# Altium footprint library crystals.PcbLib: 1 footprints
Each footprint in its own frame and in the unit in brackets; x right, y up, seen from the top. Pads: shape width x height; smd on the part's side, far side on the other; paste and mask are expansions set on the pad; w line width, h text height; cw(c..) or ccw(c..) is an arc to the next point about the centre after c.
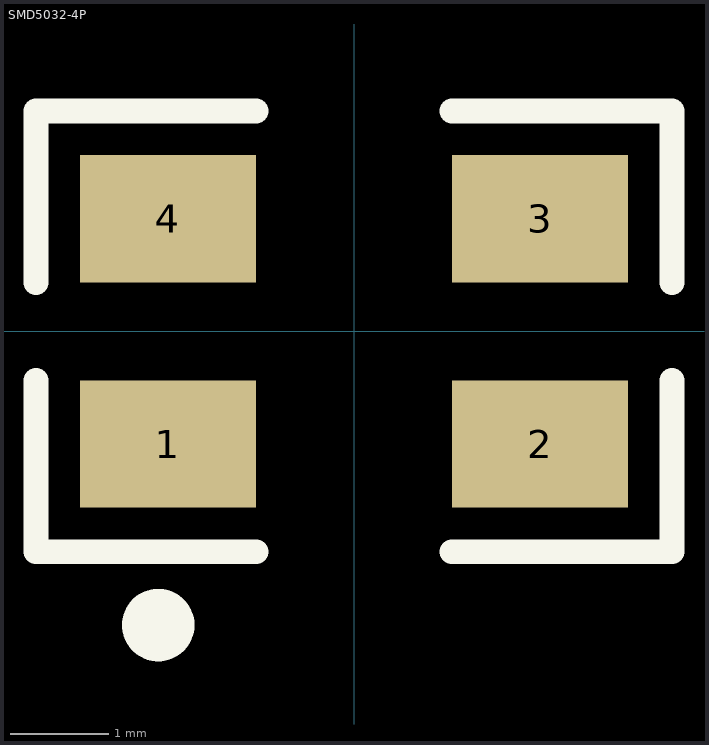
[diagram p0: the footprint, top view; thin cyan lines are the x and y axes]

## SMD5032-4P [mm] "5.0 x 3.2mm SMD"
pads (4):
  rect 1.8x1.3 smd: 1(-1.9,-1.15) 2(1.9,-1.15) 3(1.9,1.15) 4(-1.9,1.15)
Top Overlay:
  circle w0.5: c-2,-3 r0.12
  lines w0.254: -3.25,-0.5 -3.25,-2.25 -1,-2.25 ; -3.25,0.5 -3.25,2.25 -1,2.25 ; 1,-2.25 3.25,-2.25 3.25,-0.5 ; 1,2.25 3.25,2.25 3.25,0.5
3D body "Crystal_SMD5032.STEP": height 0.86, standoff 0, extent -2.5,-1.6 2.443,1.6